# Altium schematic symbol library WE-TVSP.SchLib: 358 symbols (part 1 of 7)
Pins are listed as number, name and electrical type; pins without a type are passive.

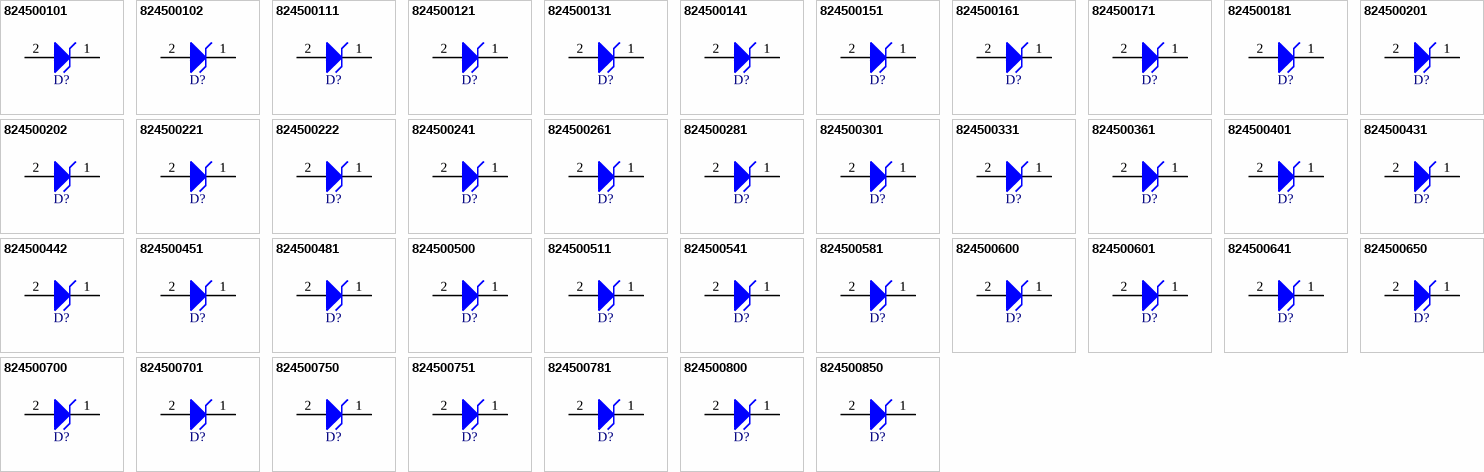
[diagram p0: symbols 824500101 to 824500850]

## 824500101
designator D?, comment 400W, 10VDC  (value not drawn)
WE-TVSP SMT Power TVS Diode, DO-214AC, Unidirectional, 400W, 10VDC; Manufacturer Part Number: 824500101; Manufacturer: Wurth Elektronik; Clamping Voltage: 17V; Operating Voltage (DC): 10V; (Reverse) Breakdown Voltage: 11.7V; (Reverse) Peak Pulse Current: 23.5A; ComponentLink1Description: Website Link; ComponentLink1URL: https://www.we-online.com/redexpert/article/824500101?ad; ComponentLink2Description: Datasheet Link; ComponentLink2URL: https://www.we-online.com/redexpert/spec/824500101?ad; Category: Surge Protection; Match Code: WE-TVSP; Mount: Surface Mount; Operating Temperature Max: 150°C; Operating Temperature Min: -65°C; Packaging: Tape and Reel; Case/Size Code: DO-214AC; Length: 4.24mm; Width: 2.67mm; Height: 2.25mm; Polarity: Unidirectional; Power Dissipation: 400W
footprint WE-TVSP_DO-214AC_Unidirectional
pins: 1 K, 2 A

## 824500102
designator D?, comment 400W, 100VDC  (value not drawn)
WE-TVSP SMT Power TVS Diode, DO-214AC, Unidirectional, 400W, 100VDC; Manufacturer Part Number: 824500102; Manufacturer: Wurth Elektronik; Clamping Voltage: 162V; Operating Voltage (DC): 100V; (Reverse) Breakdown Voltage: 117V; (Reverse) Peak Pulse Current: 2.5A; ComponentLink1Description: Website Link; ComponentLink1URL: https://www.we-online.com/redexpert/article/824500102?ad; ComponentLink2Description: Datasheet Link; ComponentLink2URL: https://www.we-online.com/redexpert/spec/824500102?ad; Category: Surge Protection; Match Code: WE-TVSP; Mount: Surface Mount; Operating Temperature Max: 150°C; Operating Temperature Min: -65°C; Packaging: Tape and Reel; Case/Size Code: DO-214AC; Length: 4.24mm; Width: 2.67mm; Height: 2.25mm; Polarity: Unidirectional; Power Dissipation: 400W
footprint WE-TVSP_DO-214AC_Unidirectional
pins: 1 K, 2 A

## 824500111
designator D?, comment 400W, 11VDC  (value not drawn)
WE-TVSP SMT Power TVS Diode, DO-214AC, Unidirectional, 400W, 11VDC; Manufacturer Part Number: 824500111; Manufacturer: Wurth Elektronik; Clamping Voltage: 18.2V; Operating Voltage (DC): 11V; (Reverse) Breakdown Voltage: 12.85V; (Reverse) Peak Pulse Current: 22A; ComponentLink1Description: Website Link; ComponentLink1URL: https://www.we-online.com/redexpert/article/824500111?ad; ComponentLink2Description: Datasheet Link; ComponentLink2URL: https://www.we-online.com/redexpert/spec/824500111?ad; Category: Surge Protection; Match Code: WE-TVSP; Mount: Surface Mount; Operating Temperature Max: 150°C; Operating Temperature Min: -65°C; Packaging: Tape and Reel; Case/Size Code: DO-214AC; Length: 4.24mm; Width: 2.67mm; Height: 2.25mm; Polarity: Unidirectional; Power Dissipation: 400W
footprint WE-TVSP_DO-214AC_Unidirectional
pins: 1 K, 2 A

## 824500121
designator D?, comment 400W, 12VDC  (value not drawn)
WE-TVSP SMT Power TVS Diode, DO-214AC, Unidirectional, 400W, 12VDC; Manufacturer Part Number: 824500121; Manufacturer: Wurth Elektronik; Clamping Voltage: 19.9V; Operating Voltage (DC): 12V; (Reverse) Breakdown Voltage: 14V; (Reverse) Peak Pulse Current: 20.1A; ComponentLink1Description: Website Link; ComponentLink1URL: https://www.we-online.com/redexpert/article/824500121?ad; ComponentLink2Description: Datasheet Link; ComponentLink2URL: https://www.we-online.com/redexpert/spec/824500121?ad; Category: Surge Protection; Match Code: WE-TVSP; Mount: Surface Mount; Operating Temperature Max: 150°C; Operating Temperature Min: -65°C; Packaging: Tape and Reel; Case/Size Code: DO-214AC; Length: 4.24mm; Width: 2.67mm; Height: 2.25mm; Polarity: Unidirectional; Power Dissipation: 400W
footprint WE-TVSP_DO-214AC_Unidirectional
pins: 1 K, 2 A

## 824500131
designator D?, comment 400W, 13VDC  (value not drawn)
WE-TVSP SMT Power TVS Diode, DO-214AC, Unidirectional, 400W, 13VDC; Manufacturer Part Number: 824500131; Manufacturer: Wurth Elektronik; Clamping Voltage: 21.5V; Operating Voltage (DC): 13V; (Reverse) Breakdown Voltage: 15.15V; (Reverse) Peak Pulse Current: 18.6A; ComponentLink1Description: Website Link; ComponentLink1URL: https://www.we-online.com/redexpert/article/824500131?ad; ComponentLink2Description: Datasheet Link; ComponentLink2URL: https://www.we-online.com/redexpert/spec/824500131?ad; Category: Surge Protection; Match Code: WE-TVSP; Mount: Surface Mount; Operating Temperature Max: 150°C; Operating Temperature Min: -65°C; Packaging: Tape and Reel; Case/Size Code: DO-214AC; Length: 4.24mm; Width: 2.67mm; Height: 2.25mm; Polarity: Unidirectional; Power Dissipation: 400W
footprint WE-TVSP_DO-214AC_Unidirectional
pins: 1 K, 2 A

## 824500141
designator D?, comment 400W, 14VDC  (value not drawn)
WE-TVSP SMT Power TVS Diode, DO-214AC, Unidirectional, 400W, 14VDC; Manufacturer Part Number: 824500141; Manufacturer: Wurth Elektronik; Clamping Voltage: 23.2V; Operating Voltage (DC): 14V; (Reverse) Breakdown Voltage: 16.4V; (Reverse) Peak Pulse Current: 17.2A; ComponentLink1Description: Website Link; ComponentLink1URL: https://www.we-online.com/redexpert/article/824500141?ad; ComponentLink2Description: Datasheet Link; ComponentLink2URL: https://www.we-online.com/redexpert/spec/824500141?ad; Category: Surge Protection; Match Code: WE-TVSP; Mount: Surface Mount; Operating Temperature Max: 150°C; Operating Temperature Min: -65°C; Packaging: Tape and Reel; Case/Size Code: DO-214AC; Length: 4.24mm; Width: 2.67mm; Height: 2.25mm; Polarity: Unidirectional; Power Dissipation: 400W
footprint WE-TVSP_DO-214AC_Unidirectional
pins: 1 K, 2 A

## 824500151
designator D?, comment 400W, 15VDC  (value not drawn)
WE-TVSP SMT Power TVS Diode, DO-214AC, Unidirectional, 400W, 15VDC; Manufacturer Part Number: 824500151; Manufacturer: Wurth Elektronik; Clamping Voltage: 24.2V; Operating Voltage (DC): 15V; (Reverse) Breakdown Voltage: 17.6V; (Reverse) Peak Pulse Current: 16.4A; ComponentLink1Description: Website Link; ComponentLink1URL: https://www.we-online.com/redexpert/article/824500151?ad; ComponentLink2Description: Datasheet Link; ComponentLink2URL: https://www.we-online.com/redexpert/spec/824500151?ad; Category: Surge Protection; Match Code: WE-TVSP; Mount: Surface Mount; Operating Temperature Max: 150°C; Operating Temperature Min: -65°C; Packaging: Tape and Reel; Case/Size Code: DO-214AC; Length: 4.24mm; Width: 2.67mm; Height: 2.25mm; Polarity: Unidirectional; Power Dissipation: 400W
footprint WE-TVSP_DO-214AC_Unidirectional
pins: 1 K, 2 A

## 824500161
designator D?, comment 400W, 16VDC  (value not drawn)
WE-TVSP SMT Power TVS Diode, DO-214AC, Unidirectional, 400W, 16VDC; Manufacturer Part Number: 824500161; Manufacturer: Wurth Elektronik; Clamping Voltage: 26V; Operating Voltage (DC): 16V; (Reverse) Breakdown Voltage: 18.75V; (Reverse) Peak Pulse Current: 15.4A; ComponentLink1Description: Website Link; ComponentLink1URL: https://www.we-online.com/redexpert/article/824500161?ad; ComponentLink2Description: Datasheet Link; ComponentLink2URL: https://www.we-online.com/redexpert/spec/824500161?ad; Category: Surge Protection; Match Code: WE-TVSP; Mount: Surface Mount; Operating Temperature Max: 150°C; Operating Temperature Min: -65°C; Packaging: Tape and Reel; Case/Size Code: DO-214AC; Length: 4.24mm; Width: 2.67mm; Height: 2.25mm; Polarity: Unidirectional; Power Dissipation: 400W
footprint WE-TVSP_DO-214AC_Unidirectional
pins: 1 K, 2 A

## 824500171
designator D?, comment 400W, 17VDC  (value not drawn)
WE-TVSP SMT Power TVS Diode, DO-214AC, Unidirectional, 400W, 17VDC; Manufacturer Part Number: 824500171; Manufacturer: Wurth Elektronik; Clamping Voltage: 27.6V; Operating Voltage (DC): 17V; (Reverse) Breakdown Voltage: 19.9V; (Reverse) Peak Pulse Current: 14.5A; ComponentLink1Description: Website Link; ComponentLink1URL: https://www.we-online.com/redexpert/article/824500171?ad; ComponentLink2Description: Datasheet Link; ComponentLink2URL: https://www.we-online.com/redexpert/spec/824500171?ad; Category: Surge Protection; Match Code: WE-TVSP; Mount: Surface Mount; Operating Temperature Max: 150°C; Operating Temperature Min: -65°C; Packaging: Tape and Reel; Case/Size Code: DO-214AC; Length: 4.24mm; Width: 2.67mm; Height: 2.25mm; Polarity: Unidirectional; Power Dissipation: 400W
footprint WE-TVSP_DO-214AC_Unidirectional
pins: 1 K, 2 A

## 824500181
designator D?, comment 400W, 18VDC  (value not drawn)
WE-TVSP SMT Power TVS Diode, DO-214AC, Unidirectional, 400W, 18VDC; Manufacturer Part Number: 824500181; Manufacturer: Wurth Elektronik; Clamping Voltage: 29.2V; Operating Voltage (DC): 18V; (Reverse) Breakdown Voltage: 21.05V; (Reverse) Peak Pulse Current: 13.7A; ComponentLink1Description: Website Link; ComponentLink1URL: https://www.we-online.com/redexpert/article/824500181?ad; ComponentLink2Description: Datasheet Link; ComponentLink2URL: https://www.we-online.com/redexpert/spec/824500181?ad; Category: Surge Protection; Match Code: WE-TVSP; Mount: Surface Mount; Operating Temperature Max: 150°C; Operating Temperature Min: -65°C; Packaging: Tape and Reel; Case/Size Code: DO-214AC; Length: 4.24mm; Width: 2.67mm; Height: 2.25mm; Polarity: Unidirectional; Power Dissipation: 400W
footprint WE-TVSP_DO-214AC_Unidirectional
pins: 1 K, 2 A

## 824500201
designator D?, comment 400W, 20VDC  (value not drawn)
WE-TVSP SMT Power TVS Diode, DO-214AC, Unidirectional, 400W, 20VDC; Manufacturer Part Number: 824500201; Manufacturer: Wurth Elektronik; Clamping Voltage: 32.4V; Operating Voltage (DC): 20V; (Reverse) Breakdown Voltage: 23.35V; (Reverse) Peak Pulse Current: 12.3A; ComponentLink1Description: Website Link; ComponentLink1URL: https://www.we-online.com/redexpert/article/824500201?ad; ComponentLink2Description: Datasheet Link; ComponentLink2URL: https://www.we-online.com/redexpert/spec/824500201?ad; Category: Surge Protection; Match Code: WE-TVSP; Mount: Surface Mount; Operating Temperature Max: 150°C; Operating Temperature Min: -65°C; Packaging: Tape and Reel; Case/Size Code: DO-214AC; Length: 4.24mm; Width: 2.67mm; Height: 2.25mm; Polarity: Unidirectional; Power Dissipation: 400W
footprint WE-TVSP_DO-214AC_Unidirectional
pins: 1 K, 2 A

## 824500202
designator D?, comment 400W, 200VDC  (value not drawn)
WE-TVSP SMT Power TVS Diode, DO-214AC, Unidirectional, 400W, 200VDC; Manufacturer Part Number: 824500202; Manufacturer: Wurth Elektronik; Clamping Voltage: 324V; Operating Voltage (DC): 200V; (Reverse) Breakdown Voltage: 235.5V; (Reverse) Peak Pulse Current: 1.2A; ComponentLink1Description: Website Link; ComponentLink1URL: https://www.we-online.com/redexpert/article/824500202?ad; ComponentLink2Description: Datasheet Link; ComponentLink2URL: https://www.we-online.com/redexpert/spec/824500202?ad; Category: Surge Protection; Match Code: WE-TVSP; Mount: Surface Mount; Operating Temperature Max: 150°C; Operating Temperature Min: -65°C; Packaging: Tape and Reel; Case/Size Code: DO-214AC; Length: 4.24mm; Width: 2.67mm; Height: 2.25mm; Polarity: Unidirectional; Power Dissipation: 400W
footprint WE-TVSP_DO-214AC_Unidirectional
pins: 1 K, 2 A

## 824500221
designator D?, comment 400W, 22VDC  (value not drawn)
WE-TVSP SMT Power TVS Diode, DO-214AC, Unidirectional, 400W, 22VDC; Manufacturer Part Number: 824500221; Manufacturer: Wurth Elektronik; Clamping Voltage: 35.5V; Operating Voltage (DC): 22V; (Reverse) Breakdown Voltage: 25.65V; (Reverse) Peak Pulse Current: 11.3A; ComponentLink1Description: Website Link; ComponentLink1URL: https://www.we-online.com/redexpert/article/824500221?ad; ComponentLink2Description: Datasheet Link; ComponentLink2URL: https://www.we-online.com/redexpert/spec/824500221?ad; Category: Surge Protection; Match Code: WE-TVSP; Mount: Surface Mount; Operating Temperature Max: 150°C; Operating Temperature Min: -65°C; Packaging: Tape and Reel; Case/Size Code: DO-214AC; Length: 4.24mm; Width: 2.67mm; Height: 2.25mm; Polarity: Unidirectional; Power Dissipation: 400W
footprint WE-TVSP_DO-214AC_Unidirectional
pins: 1 K, 2 A

## 824500222
designator D?, comment 400W, 220VDC  (value not drawn)
WE-TVSP SMT Power TVS Diode, DO-214AC, Unidirectional, 400W, 220VDC; Manufacturer Part Number: 824500222; Manufacturer: Wurth Elektronik; Clamping Voltage: 356V; Operating Voltage (DC): 220V; (Reverse) Breakdown Voltage: 259V; (Reverse) Peak Pulse Current: 1.1A; ComponentLink1Description: Website Link; ComponentLink1URL: https://www.we-online.com/redexpert/article/824500222?ad; ComponentLink2Description: Datasheet Link; ComponentLink2URL: https://www.we-online.com/redexpert/spec/824500222?ad; Category: Surge Protection; Match Code: WE-TVSP; Mount: Surface Mount; Operating Temperature Max: 150°C; Operating Temperature Min: -65°C; Packaging: Tape and Reel; Case/Size Code: DO-214AC; Length: 4.24mm; Width: 2.67mm; Height: 2.25mm; Polarity: Unidirectional; Power Dissipation: 400W
footprint WE-TVSP_DO-214AC_Unidirectional
pins: 1 K, 2 A

## 824500241
designator D?, comment 400W, 24VDC  (value not drawn)
WE-TVSP SMT Power TVS Diode, DO-214AC, Unidirectional, 400W, 24VDC; Manufacturer Part Number: 824500241; Manufacturer: Wurth Elektronik; Clamping Voltage: 38.9V; Operating Voltage (DC): 24V; (Reverse) Breakdown Voltage: 28.1V; (Reverse) Peak Pulse Current: 10.3A; ComponentLink1Description: Website Link; ComponentLink1URL: https://www.we-online.com/redexpert/article/824500241?ad; ComponentLink2Description: Datasheet Link; ComponentLink2URL: https://www.we-online.com/redexpert/spec/824500241?ad; Category: Surge Protection; Match Code: WE-TVSP; Mount: Surface Mount; Operating Temperature Max: 150°C; Operating Temperature Min: -65°C; Packaging: Tape and Reel; Case/Size Code: DO-214AC; Length: 4.24mm; Width: 2.67mm; Height: 2.25mm; Polarity: Unidirectional; Power Dissipation: 400W
footprint WE-TVSP_DO-214AC_Unidirectional
pins: 1 K, 2 A

## 824500261
designator D?, comment 400W, 26VDC  (value not drawn)
WE-TVSP SMT Power TVS Diode, DO-214AC, Unidirectional, 400W, 26VDC; Manufacturer Part Number: 824500261; Manufacturer: Wurth Elektronik; Clamping Voltage: 42.1V; Operating Voltage (DC): 26V; (Reverse) Breakdown Voltage: 30.4V; (Reverse) Peak Pulse Current: 9.5A; ComponentLink1Description: Website Link; ComponentLink1URL: https://www.we-online.com/redexpert/article/824500261?ad; ComponentLink2Description: Datasheet Link; ComponentLink2URL: https://www.we-online.com/redexpert/spec/824500261?ad; Category: Surge Protection; Match Code: WE-TVSP; Mount: Surface Mount; Operating Temperature Max: 150°C; Operating Temperature Min: -65°C; Packaging: Tape and Reel; Case/Size Code: DO-214AC; Length: 4.24mm; Width: 2.67mm; Height: 2.25mm; Polarity: Unidirectional; Power Dissipation: 400W
footprint WE-TVSP_DO-214AC_Unidirectional
pins: 1 K, 2 A

## 824500281
designator D?, comment 400W, 28VDC  (value not drawn)
WE-TVSP SMT Power TVS Diode, DO-214AC, Unidirectional, 400W, 28VDC; Manufacturer Part Number: 824500281; Manufacturer: Wurth Elektronik; Clamping Voltage: 45.4V; Operating Voltage (DC): 28V; (Reverse) Breakdown Voltage: 32.75V; (Reverse) Peak Pulse Current: 8.8A; ComponentLink1Description: Website Link; ComponentLink1URL: https://www.we-online.com/redexpert/article/824500281?ad; ComponentLink2Description: Datasheet Link; ComponentLink2URL: https://www.we-online.com/redexpert/spec/824500281?ad; Category: Surge Protection; Match Code: WE-TVSP; Mount: Surface Mount; Operating Temperature Max: 150°C; Operating Temperature Min: -65°C; Packaging: Tape and Reel; Case/Size Code: DO-214AC; Length: 4.24mm; Width: 2.67mm; Height: 2.25mm; Polarity: Unidirectional; Power Dissipation: 400W
footprint WE-TVSP_DO-214AC_Unidirectional
pins: 1 K, 2 A

## 824500301
designator D?, comment 400W, 30VDC  (value not drawn)
WE-TVSP SMT Power TVS Diode, DO-214AC, Unidirectional, 400W, 30VDC; Manufacturer Part Number: 824500301; Manufacturer: Wurth Elektronik; Clamping Voltage: 48.4V; Operating Voltage (DC): 30V; (Reverse) Breakdown Voltage: 35.05V; (Reverse) Peak Pulse Current: 8.3A; ComponentLink1Description: Website Link; ComponentLink1URL: https://www.we-online.com/redexpert/article/824500301?ad; ComponentLink2Description: Datasheet Link; ComponentLink2URL: https://www.we-online.com/redexpert/spec/824500301?ad; Category: Surge Protection; Match Code: WE-TVSP; Mount: Surface Mount; Operating Temperature Max: 150°C; Operating Temperature Min: -65°C; Packaging: Tape and Reel; Case/Size Code: DO-214AC; Length: 4.24mm; Width: 2.67mm; Height: 2.25mm; Polarity: Unidirectional; Power Dissipation: 400W
footprint WE-TVSP_DO-214AC_Unidirectional
pins: 1 K, 2 A

## 824500331
designator D?, comment 400W, 33VDC  (value not drawn)
WE-TVSP SMT Power TVS Diode, DO-214AC, Unidirectional, 400W, 33VDC; Manufacturer Part Number: 824500331; Manufacturer: Wurth Elektronik; Clamping Voltage: 53.3V; Operating Voltage (DC): 33V; (Reverse) Breakdown Voltage: 38.65V; (Reverse) Peak Pulse Current: 7.5A; ComponentLink1Description: Website Link; ComponentLink1URL: https://www.we-online.com/redexpert/article/824500331?ad; ComponentLink2Description: Datasheet Link; ComponentLink2URL: https://www.we-online.com/redexpert/spec/824500331?ad; Category: Surge Protection; Match Code: WE-TVSP; Mount: Surface Mount; Operating Temperature Max: 150°C; Operating Temperature Min: -65°C; Packaging: Tape and Reel; Case/Size Code: DO-214AC; Length: 4.24mm; Width: 2.67mm; Height: 2.25mm; Polarity: Unidirectional; Power Dissipation: 400W
footprint WE-TVSP_DO-214AC_Unidirectional
pins: 1 K, 2 A

## 824500361
designator D?, comment 400W, 36VDC  (value not drawn)
WE-TVSP SMT Power TVS Diode, DO-214AC, Unidirectional, 400W, 36VDC; Manufacturer Part Number: 824500361; Manufacturer: Wurth Elektronik; Clamping Voltage: 58.1V; Operating Voltage (DC): 36V; (Reverse) Breakdown Voltage: 42.1V; (Reverse) Peak Pulse Current: 6.9A; ComponentLink1Description: Website Link; ComponentLink1URL: https://www.we-online.com/redexpert/article/824500361?ad; ComponentLink2Description: Datasheet Link; ComponentLink2URL: https://www.we-online.com/redexpert/spec/824500361?ad; Category: Surge Protection; Match Code: WE-TVSP; Mount: Surface Mount; Operating Temperature Max: 150°C; Operating Temperature Min: -65°C; Packaging: Tape and Reel; Case/Size Code: DO-214AC; Length: 4.24mm; Width: 2.67mm; Height: 2.25mm; Polarity: Unidirectional; Power Dissipation: 400W
footprint WE-TVSP_DO-214AC_Unidirectional
pins: 1 K, 2 A

## 824500401
designator D?, comment 400W, 40VDC  (value not drawn)
WE-TVSP SMT Power TVS Diode, DO-214AC, Unidirectional, 400W, 40VDC; Manufacturer Part Number: 824500401; Manufacturer: Wurth Elektronik; Clamping Voltage: 64.5V; Operating Voltage (DC): 40V; (Reverse) Breakdown Voltage: 46.75V; (Reverse) Peak Pulse Current: 6.2A; ComponentLink1Description: Website Link; ComponentLink1URL: https://www.we-online.com/redexpert/article/824500401?ad; ComponentLink2Description: Datasheet Link; ComponentLink2URL: https://www.we-online.com/redexpert/spec/824500401?ad; Category: Surge Protection; Match Code: WE-TVSP; Mount: Surface Mount; Operating Temperature Max: 150°C; Operating Temperature Min: -65°C; Packaging: Tape and Reel; Case/Size Code: DO-214AC; Length: 4.24mm; Width: 2.67mm; Height: 2.25mm; Polarity: Unidirectional; Power Dissipation: 400W
footprint WE-TVSP_DO-214AC_Unidirectional
pins: 1 K, 2 A

## 824500431
designator D?, comment 400W, 43VDC  (value not drawn)
WE-TVSP SMT Power TVS Diode, DO-214AC, Unidirectional, 400W, 43VDC; Manufacturer Part Number: 824500431; Manufacturer: Wurth Elektronik; Clamping Voltage: 69.4V; Operating Voltage (DC): 43V; (Reverse) Breakdown Voltage: 50.3V; (Reverse) Peak Pulse Current: 5.8A; ComponentLink1Description: Website Link; ComponentLink1URL: https://www.we-online.com/redexpert/article/824500431?ad; ComponentLink2Description: Datasheet Link; ComponentLink2URL: https://www.we-online.com/redexpert/spec/824500431?ad; Category: Surge Protection; Match Code: WE-TVSP; Mount: Surface Mount; Operating Temperature Max: 150°C; Operating Temperature Min: -65°C; Packaging: Tape and Reel; Case/Size Code: DO-214AC; Length: 4.24mm; Width: 2.67mm; Height: 2.25mm; Polarity: Unidirectional; Power Dissipation: 400W
footprint WE-TVSP_DO-214AC_Unidirectional
pins: 1 K, 2 A

## 824500442
designator D?, comment 400W, 440VDC  (value not drawn)
WE-TVSP SMT Power TVS Diode, DO-214AC, Unidirectional, 400W, 440VDC; Manufacturer Part Number: 824500442; Manufacturer: Wurth Elektronik; Clamping Voltage: 713V; Operating Voltage (DC): 440V; (Reverse) Breakdown Voltage: 517.5V; (Reverse) Peak Pulse Current: 0.6A; ComponentLink1Description: Website Link; ComponentLink1URL: https://www.we-online.com/redexpert/article/824500442?ad; ComponentLink2Description: Datasheet Link; ComponentLink2URL: https://www.we-online.com/redexpert/spec/824500442?ad; Category: Surge Protection; Match Code: WE-TVSP; Mount: Surface Mount; Operating Temperature Max: 150°C; Operating Temperature Min: -65°C; Packaging: Tape and Reel; Case/Size Code: DO-214AC; Length: 4.24mm; Width: 2.67mm; Height: 2.25mm; Polarity: Unidirectional; Power Dissipation: 400W
footprint WE-TVSP_DO-214AC_Unidirectional
pins: 1 K, 2 A

## 824500451
designator D?, comment 400W, 45VDC  (value not drawn)
WE-TVSP SMT Power TVS Diode, DO-214AC, Unidirectional, 400W, 45VDC; Manufacturer Part Number: 824500451; Manufacturer: Wurth Elektronik; Clamping Voltage: 72.7V; Operating Voltage (DC): 45V; (Reverse) Breakdown Voltage: 52.65V; (Reverse) Peak Pulse Current: 5.5A; ComponentLink1Description: Website Link; ComponentLink1URL: https://www.we-online.com/redexpert/article/824500451?ad; ComponentLink2Description: Datasheet Link; ComponentLink2URL: https://www.we-online.com/redexpert/spec/824500451?ad; Category: Surge Protection; Match Code: WE-TVSP; Mount: Surface Mount; Operating Temperature Max: 150°C; Operating Temperature Min: -65°C; Packaging: Tape and Reel; Case/Size Code: DO-214AC; Length: 4.24mm; Width: 2.67mm; Height: 2.25mm; Polarity: Unidirectional; Power Dissipation: 400W
footprint WE-TVSP_DO-214AC_Unidirectional
pins: 1 K, 2 A

## 824500481
designator D?, comment 400W, 48VDC  (value not drawn)
WE-TVSP SMT Power TVS Diode, DO-214AC, Unidirectional, 400W, 48VDC; Manufacturer Part Number: 824500481; Manufacturer: Wurth Elektronik; Clamping Voltage: 77.4V; Operating Voltage (DC): 48V; (Reverse) Breakdown Voltage: 56.1V; (Reverse) Peak Pulse Current: 5.2A; ComponentLink1Description: Website Link; ComponentLink1URL: https://www.we-online.com/redexpert/article/824500481?ad; ComponentLink2Description: Datasheet Link; ComponentLink2URL: https://www.we-online.com/redexpert/spec/824500481?ad; Category: Surge Protection; Match Code: WE-TVSP; Mount: Surface Mount; Operating Temperature Max: 150°C; Operating Temperature Min: -65°C; Packaging: Tape and Reel; Case/Size Code: DO-214AC; Length: 4.24mm; Width: 2.67mm; Height: 2.25mm; Polarity: Unidirectional; Power Dissipation: 400W
footprint WE-TVSP_DO-214AC_Unidirectional
pins: 1 K, 2 A

## 824500500
designator D?, comment 400W, 5VDC  (value not drawn)
WE-TVSP SMT Power TVS Diode, DO-214AC, Unidirectional, 400W, 5VDC; Manufacturer Part Number: 824500500; Manufacturer: Wurth Elektronik; Clamping Voltage: 9.2V; Operating Voltage (DC): 5V; (Reverse) Breakdown Voltage: 6.7V; (Reverse) Peak Pulse Current: 43.5A; ComponentLink1Description: Website Link; ComponentLink1URL: https://www.we-online.com/redexpert/article/824500500?ad; ComponentLink2Description: Datasheet Link; ComponentLink2URL: https://www.we-online.com/redexpert/spec/824500500?ad; Category: Surge Protection; Match Code: WE-TVSP; Mount: Surface Mount; Operating Temperature Max: 150°C; Operating Temperature Min: -65°C; Packaging: Tape and Reel; Case/Size Code: DO-214AC; Length: 4.24mm; Width: 2.67mm; Height: 2.25mm; Polarity: Unidirectional; Power Dissipation: 400W
footprint WE-TVSP_DO-214AC_Unidirectional
pins: 1 K, 2 A

## 824500511
designator D?, comment 400W, 51VDC  (value not drawn)
WE-TVSP SMT Power TVS Diode, DO-214AC, Unidirectional, 400W, 51VDC; Manufacturer Part Number: 824500511; Manufacturer: Wurth Elektronik; Clamping Voltage: 82.4V; Operating Voltage (DC): 51V; (Reverse) Breakdown Voltage: 59.7V; (Reverse) Peak Pulse Current: 4.9A; ComponentLink1Description: Website Link; ComponentLink1URL: https://www.we-online.com/redexpert/article/824500511?ad; ComponentLink2Description: Datasheet Link; ComponentLink2URL: https://www.we-online.com/redexpert/spec/824500511?ad; Category: Surge Protection; Match Code: WE-TVSP; Mount: Surface Mount; Operating Temperature Max: 150°C; Operating Temperature Min: -65°C; Packaging: Tape and Reel; Case/Size Code: DO-214AC; Length: 4.24mm; Width: 2.67mm; Height: 2.25mm; Polarity: Unidirectional; Power Dissipation: 400W
footprint WE-TVSP_DO-214AC_Unidirectional
pins: 1 K, 2 A

## 824500541
designator D?, comment 400W, 54VDC  (value not drawn)
WE-TVSP SMT Power TVS Diode, DO-214AC, Unidirectional, 400W, 54VDC; Manufacturer Part Number: 824500541; Manufacturer: Wurth Elektronik; Clamping Voltage: 87.1V; Operating Voltage (DC): 54V; (Reverse) Breakdown Voltage: 63.15V; (Reverse) Peak Pulse Current: 4.6A; ComponentLink1Description: Website Link; ComponentLink1URL: https://www.we-online.com/redexpert/article/824500541?ad; ComponentLink2Description: Datasheet Link; ComponentLink2URL: https://www.we-online.com/redexpert/spec/824500541?ad; Category: Surge Protection; Match Code: WE-TVSP; Mount: Surface Mount; Operating Temperature Max: 150°C; Operating Temperature Min: -65°C; Packaging: Tape and Reel; Case/Size Code: DO-214AC; Length: 4.24mm; Width: 2.67mm; Height: 2.25mm; Polarity: Unidirectional; Power Dissipation: 400W
footprint WE-TVSP_DO-214AC_Unidirectional
pins: 1 K, 2 A

## 824500581
designator D?, comment 400W, 58VDC  (value not drawn)
WE-TVSP SMT Power TVS Diode, DO-214AC, Unidirectional, 400W, 58VDC; Manufacturer Part Number: 824500581; Manufacturer: Wurth Elektronik; Clamping Voltage: 93.6V; Operating Voltage (DC): 58V; (Reverse) Breakdown Voltage: 67.8V; (Reverse) Peak Pulse Current: 4.3A; ComponentLink1Description: Website Link; ComponentLink1URL: https://www.we-online.com/redexpert/article/824500581?ad; ComponentLink2Description: Datasheet Link; ComponentLink2URL: https://www.we-online.com/redexpert/spec/824500581?ad; Category: Surge Protection; Match Code: WE-TVSP; Mount: Surface Mount; Operating Temperature Max: 150°C; Operating Temperature Min: -65°C; Packaging: Tape and Reel; Case/Size Code: DO-214AC; Length: 4.24mm; Width: 2.67mm; Height: 2.25mm; Polarity: Unidirectional; Power Dissipation: 400W
footprint WE-TVSP_DO-214AC_Unidirectional
pins: 1 K, 2 A

## 824500600
designator D?, comment 400W, 6VDC  (value not drawn)
WE-TVSP SMT Power TVS Diode, DO-214AC, Unidirectional, 400W, 6VDC; Manufacturer Part Number: 824500600; Manufacturer: Wurth Elektronik; Clamping Voltage: 10.3V; Operating Voltage (DC): 6V; (Reverse) Breakdown Voltage: 7.02V; (Reverse) Peak Pulse Current: 38.8A; ComponentLink1Description: Website Link; ComponentLink1URL: https://www.we-online.com/redexpert/article/824500600?ad; ComponentLink2Description: Datasheet Link; ComponentLink2URL: https://www.we-online.com/redexpert/spec/824500600?ad; Category: Surge Protection; Match Code: WE-TVSP; Mount: Surface Mount; Operating Temperature Max: 150°C; Operating Temperature Min: -65°C; Packaging: Tape and Reel; Case/Size Code: DO-214AC; Length: 4.24mm; Width: 2.67mm; Height: 2.25mm; Polarity: Unidirectional; Power Dissipation: 400W
footprint WE-TVSP_DO-214AC_Unidirectional
pins: 1 K, 2 A

## 824500601
designator D?, comment 400W, 60VDC  (value not drawn)
WE-TVSP SMT Power TVS Diode, DO-214AC, Unidirectional, 400W, 60VDC; Manufacturer Part Number: 824500601; Manufacturer: Wurth Elektronik; Clamping Voltage: 96.8V; Operating Voltage (DC): 60V; (Reverse) Breakdown Voltage: 70.2V; (Reverse) Peak Pulse Current: 4.1A; ComponentLink1Description: Website Link; ComponentLink1URL: https://www.we-online.com/redexpert/article/824500601?ad; ComponentLink2Description: Datasheet Link; ComponentLink2URL: https://www.we-online.com/redexpert/spec/824500601?ad; Category: Surge Protection; Match Code: WE-TVSP; Mount: Surface Mount; Operating Temperature Max: 150°C; Operating Temperature Min: -65°C; Packaging: Tape and Reel; Case/Size Code: DO-214AC; Length: 4.24mm; Width: 2.67mm; Height: 2.25mm; Polarity: Unidirectional; Power Dissipation: 400W
footprint WE-TVSP_DO-214AC_Unidirectional
pins: 1 K, 2 A

## 824500641
designator D?, comment 400W, 64VDC  (value not drawn)
WE-TVSP SMT Power TVS Diode, DO-214AC, Unidirectional, 400W, 64VDC; Manufacturer Part Number: 824500641; Manufacturer: Wurth Elektronik; Clamping Voltage: 103V; Operating Voltage (DC): 64V; (Reverse) Breakdown Voltage: 74.85V; (Reverse) Peak Pulse Current: 3.9A; ComponentLink1Description: Website Link; ComponentLink1URL: https://www.we-online.com/redexpert/article/824500641?ad; ComponentLink2Description: Datasheet Link; ComponentLink2URL: https://www.we-online.com/redexpert/spec/824500641?ad; Category: Surge Protection; Match Code: WE-TVSP; Mount: Surface Mount; Operating Temperature Max: 150°C; Operating Temperature Min: -65°C; Packaging: Tape and Reel; Case/Size Code: DO-214AC; Length: 4.24mm; Width: 2.67mm; Height: 2.25mm; Polarity: Unidirectional; Power Dissipation: 400W
footprint WE-TVSP_DO-214AC_Unidirectional
pins: 1 K, 2 A

## 824500650
designator D?, comment 400W, 6.5VDC  (value not drawn)
WE-TVSP SMT Power TVS Diode, DO-214AC, Unidirectional, 400W, 6.5VDC; Manufacturer Part Number: 824500650; Manufacturer: Wurth Elektronik; Clamping Voltage: 11.2V; Operating Voltage (DC): 6.5V; (Reverse) Breakdown Voltage: 7.6V; (Reverse) Peak Pulse Current: 35.7A; ComponentLink1Description: Website Link; ComponentLink1URL: https://www.we-online.com/redexpert/article/824500650?ad; ComponentLink2Description: Datasheet Link; ComponentLink2URL: https://www.we-online.com/redexpert/spec/824500650?ad; Category: Surge Protection; Match Code: WE-TVSP; Mount: Surface Mount; Operating Temperature Max: 150°C; Operating Temperature Min: -65°C; Packaging: Tape and Reel; Case/Size Code: DO-214AC; Length: 4.24mm; Width: 2.67mm; Height: 2.25mm; Polarity: Unidirectional; Power Dissipation: 400W
footprint WE-TVSP_DO-214AC_Unidirectional
pins: 1 K, 2 A

## 824500700
designator D?, comment 400W, 7VDC  (value not drawn)
WE-TVSP SMT Power TVS Diode, DO-214AC, Unidirectional, 400W, 7VDC; Manufacturer Part Number: 824500700; Manufacturer: Wurth Elektronik; Clamping Voltage: 12V; Operating Voltage (DC): 7V; (Reverse) Breakdown Voltage: 8.19V; (Reverse) Peak Pulse Current: 33.3A; ComponentLink1Description: Website Link; ComponentLink1URL: https://www.we-online.com/redexpert/article/824500700?ad; ComponentLink2Description: Datasheet Link; ComponentLink2URL: https://www.we-online.com/redexpert/spec/824500700?ad; Category: Surge Protection; Match Code: WE-TVSP; Mount: Surface Mount; Operating Temperature Max: 150°C; Operating Temperature Min: -65°C; Packaging: Tape and Reel; Case/Size Code: DO-214AC; Length: 4.24mm; Width: 2.67mm; Height: 2.25mm; Polarity: Unidirectional; Power Dissipation: 400W
footprint WE-TVSP_DO-214AC_Unidirectional
pins: 1 K, 2 A

## 824500701
designator D?, comment 400W, 70VDC  (value not drawn)
WE-TVSP SMT Power TVS Diode, DO-214AC, Unidirectional, 400W, 70VDC; Manufacturer Part Number: 824500701; Manufacturer: Wurth Elektronik; Clamping Voltage: 113V; Operating Voltage (DC): 70V; (Reverse) Breakdown Voltage: 81.9V; (Reverse) Peak Pulse Current: 3.5A; ComponentLink1Description: Website Link; ComponentLink1URL: https://www.we-online.com/redexpert/article/824500701?ad; ComponentLink2Description: Datasheet Link; ComponentLink2URL: https://www.we-online.com/redexpert/spec/824500701?ad; Category: Surge Protection; Match Code: WE-TVSP; Mount: Surface Mount; Operating Temperature Max: 150°C; Operating Temperature Min: -65°C; Packaging: Tape and Reel; Case/Size Code: DO-214AC; Length: 4.24mm; Width: 2.67mm; Height: 2.25mm; Polarity: Unidirectional; Power Dissipation: 400W
footprint WE-TVSP_DO-214AC_Unidirectional
pins: 1 K, 2 A

## 824500750
designator D?, comment 400W, 7.5VDC  (value not drawn)
WE-TVSP SMT Power TVS Diode, DO-214AC, Unidirectional, 400W, 7.5VDC; Manufacturer Part Number: 824500750; Manufacturer: Wurth Elektronik; Clamping Voltage: 12.9V; Operating Voltage (DC): 7.5V; (Reverse) Breakdown Voltage: 8.77V; (Reverse) Peak Pulse Current: 31A; ComponentLink1Description: Website Link; ComponentLink1URL: https://www.we-online.com/redexpert/article/824500750?ad; ComponentLink2Description: Datasheet Link; ComponentLink2URL: https://www.we-online.com/redexpert/spec/824500750?ad; Category: Surge Protection; Match Code: WE-TVSP; Mount: Surface Mount; Operating Temperature Max: 150°C; Operating Temperature Min: -65°C; Packaging: Tape and Reel; Case/Size Code: DO-214AC; Length: 4.24mm; Width: 2.67mm; Height: 2.25mm; Polarity: Unidirectional; Power Dissipation: 400W
footprint WE-TVSP_DO-214AC_Unidirectional
pins: 1 K, 2 A

## 824500751
designator D?, comment 400W, 75VDC  (value not drawn)
WE-TVSP SMT Power TVS Diode, DO-214AC, Unidirectional, 400W, 75VDC; Manufacturer Part Number: 824500751; Manufacturer: Wurth Elektronik; Clamping Voltage: 121V; Operating Voltage (DC): 75V; (Reverse) Breakdown Voltage: 87.7V; (Reverse) Peak Pulse Current: 3.3A; ComponentLink1Description: Website Link; ComponentLink1URL: https://www.we-online.com/redexpert/article/824500751?ad; ComponentLink2Description: Datasheet Link; ComponentLink2URL: https://www.we-online.com/redexpert/spec/824500751?ad; Category: Surge Protection; Match Code: WE-TVSP; Mount: Surface Mount; Operating Temperature Max: 150°C; Operating Temperature Min: -65°C; Packaging: Tape and Reel; Case/Size Code: DO-214AC; Length: 4.24mm; Width: 2.67mm; Height: 2.25mm; Polarity: Unidirectional; Power Dissipation: 400W
footprint WE-TVSP_DO-214AC_Unidirectional
pins: 1 K, 2 A

## 824500781
designator D?, comment 400W, 78VDC  (value not drawn)
WE-TVSP SMT Power TVS Diode, DO-214AC, Unidirectional, 400W, 78VDC; Manufacturer Part Number: 824500781; Manufacturer: Wurth Elektronik; Clamping Voltage: 126V; Operating Voltage (DC): 78V; (Reverse) Breakdown Voltage: 91.25V; (Reverse) Peak Pulse Current: 3.2A; ComponentLink1Description: Website Link; ComponentLink1URL: https://www.we-online.com/redexpert/article/824500781?ad; ComponentLink2Description: Datasheet Link; ComponentLink2URL: https://www.we-online.com/redexpert/spec/824500781?ad; Category: Surge Protection; Match Code: WE-TVSP; Mount: Surface Mount; Operating Temperature Max: 150°C; Operating Temperature Min: -65°C; Packaging: Tape and Reel; Case/Size Code: DO-214AC; Length: 4.24mm; Width: 2.67mm; Height: 2.25mm; Polarity: Unidirectional; Power Dissipation: 400W
footprint WE-TVSP_DO-214AC_Unidirectional
pins: 1 K, 2 A

## 824500800
designator D?, comment 400W, 8VDC  (value not drawn)
WE-TVSP SMT Power TVS Diode, DO-214AC, Unidirectional, 400W, 8VDC; Manufacturer Part Number: 824500800; Manufacturer: Wurth Elektronik; Clamping Voltage: 13.6V; Operating Voltage (DC): 8V; (Reverse) Breakdown Voltage: 9.36V; (Reverse) Peak Pulse Current: 29.4A; ComponentLink1Description: Website Link; ComponentLink1URL: https://www.we-online.com/redexpert/article/824500800?ad; ComponentLink2Description: Datasheet Link; ComponentLink2URL: https://www.we-online.com/redexpert/spec/824500800?ad; Category: Surge Protection; Match Code: WE-TVSP; Mount: Surface Mount; Operating Temperature Max: 150°C; Operating Temperature Min: -65°C; Packaging: Tape and Reel; Case/Size Code: DO-214AC; Length: 4.24mm; Width: 2.67mm; Height: 2.25mm; Polarity: Unidirectional; Power Dissipation: 400W
footprint WE-TVSP_DO-214AC_Unidirectional
pins: 1 K, 2 A

## 824500850
designator D?, comment 400W, 8.5VDC  (value not drawn)
WE-TVSP SMT Power TVS Diode, DO-214AC, Unidirectional, 400W, 8.5VDC; Manufacturer Part Number: 824500850; Manufacturer: Wurth Elektronik; Clamping Voltage: 14.4V; Operating Voltage (DC): 8.5V; (Reverse) Breakdown Voltage: 9.92V; (Reverse) Peak Pulse Current: 27.8A; ComponentLink1Description: Website Link; ComponentLink1URL: https://www.we-online.com/redexpert/article/824500850?ad; ComponentLink2Description: Datasheet Link; ComponentLink2URL: https://www.we-online.com/redexpert/spec/824500850?ad; Category: Surge Protection; Match Code: WE-TVSP; Mount: Surface Mount; Operating Temperature Max: 150°C; Operating Temperature Min: -65°C; Packaging: Tape and Reel; Case/Size Code: DO-214AC; Length: 4.24mm; Width: 2.67mm; Height: 2.25mm; Polarity: Unidirectional; Power Dissipation: 400W
footprint WE-TVSP_DO-214AC_Unidirectional
pins: 1 K, 2 A

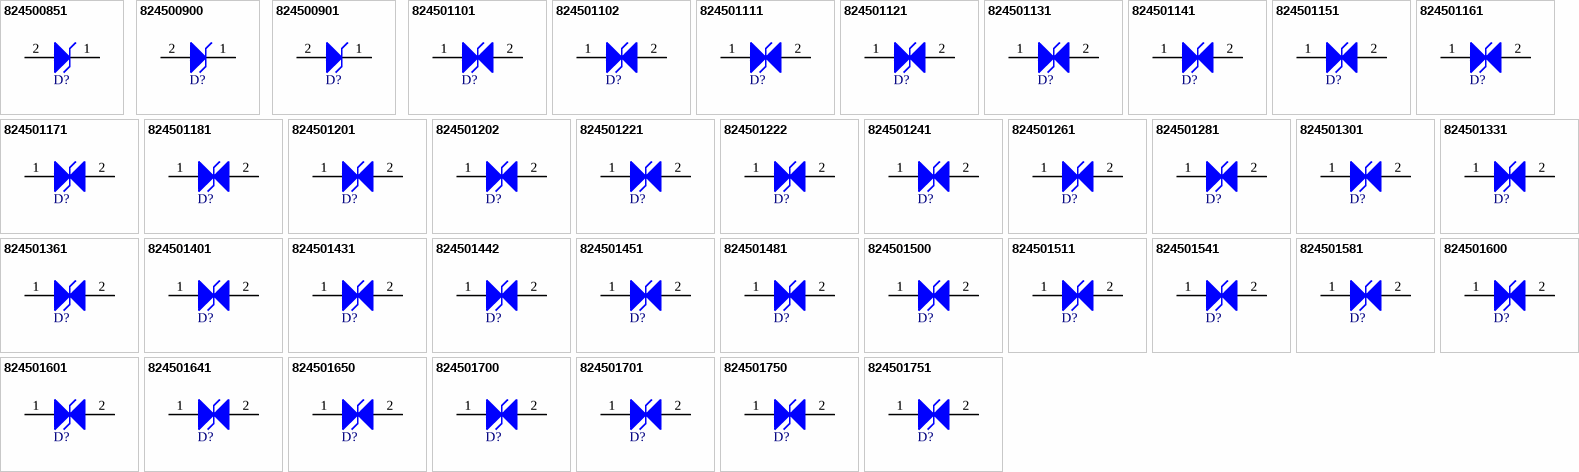
[diagram p1: symbols 824500851 to 824501751]

## 824500851
designator D?, comment 400W, 85VDC  (value not drawn)
WE-TVSP SMT Power TVS Diode, DO-214AC, Unidirectional, 400W, 85VDC; Manufacturer Part Number: 824500851; Manufacturer: Wurth Elektronik; Clamping Voltage: 137V; Operating Voltage (DC): 85V; (Reverse) Breakdown Voltage: 99.2V; (Reverse) Peak Pulse Current: 2.9A; ComponentLink1Description: Website Link; ComponentLink1URL: https://www.we-online.com/redexpert/article/824500851?ad; ComponentLink2Description: Datasheet Link; ComponentLink2URL: https://www.we-online.com/redexpert/spec/824500851?ad; Category: Surge Protection; Match Code: WE-TVSP; Mount: Surface Mount; Operating Temperature Max: 150°C; Operating Temperature Min: -65°C; Packaging: Tape and Reel; Case/Size Code: DO-214AC; Length: 4.24mm; Width: 2.67mm; Height: 2.25mm; Polarity: Unidirectional; Power Dissipation: 400W
footprint WE-TVSP_DO-214AC_Unidirectional
pins: 1 K, 2 A

## 824500900
designator D?, comment 400W, 9VDC  (value not drawn)
WE-TVSP SMT Power TVS Diode, DO-214AC, Unidirectional, 400W, 9VDC; Manufacturer Part Number: 824500900; Manufacturer: Wurth Elektronik; Clamping Voltage: 15.4V; Operating Voltage (DC): 9V; (Reverse) Breakdown Voltage: 10.55V; (Reverse) Peak Pulse Current: 26A; ComponentLink1Description: Website Link; ComponentLink1URL: https://www.we-online.com/redexpert/article/824500900?ad; ComponentLink2Description: Datasheet Link; ComponentLink2URL: https://www.we-online.com/redexpert/spec/824500900?ad; Category: Surge Protection; Match Code: WE-TVSP; Mount: Surface Mount; Operating Temperature Max: 150°C; Operating Temperature Min: -65°C; Packaging: Tape and Reel; Case/Size Code: DO-214AC; Length: 4.24mm; Width: 2.67mm; Height: 2.25mm; Polarity: Unidirectional; Power Dissipation: 400W
footprint WE-TVSP_DO-214AC_Unidirectional
pins: 1 K, 2 A

## 824500901
designator D?, comment 400W, 90VDC  (value not drawn)
WE-TVSP SMT Power TVS Diode, DO-214AC, Unidirectional, 400W, 90VDC; Manufacturer Part Number: 824500901; Manufacturer: Wurth Elektronik; Clamping Voltage: 146V; Operating Voltage (DC): 90V; (Reverse) Breakdown Voltage: 105.5V; (Reverse) Peak Pulse Current: 2.7A; ComponentLink1Description: Website Link; ComponentLink1URL: https://www.we-online.com/redexpert/article/824500901?ad; ComponentLink2Description: Datasheet Link; ComponentLink2URL: https://www.we-online.com/redexpert/spec/824500901?ad; Category: Surge Protection; Match Code: WE-TVSP; Mount: Surface Mount; Operating Temperature Max: 150°C; Operating Temperature Min: -65°C; Packaging: Tape and Reel; Case/Size Code: DO-214AC; Length: 4.24mm; Width: 2.67mm; Height: 2.25mm; Polarity: Unidirectional; Power Dissipation: 400W
footprint WE-TVSP_DO-214AC_Unidirectional
pins: 1 K, 2 A

## 824501101
designator D?, comment 400W, 10VDC  (value not drawn)
WE-TVSP SMT Power TVS Diode, DO-214AC, Bidirectional, 400W, 10VDC; Manufacturer Part Number: 824501101; Manufacturer: Wurth Elektronik; Clamping Voltage: 17V; Operating Voltage (DC): 10V; (Reverse) Breakdown Voltage: 11.7V; (Reverse) Peak Pulse Current: 23.5A; ComponentLink1Description: Website Link; ComponentLink1URL: https://www.we-online.com/redexpert/article/824501101?ad; ComponentLink2Description: Datasheet Link; ComponentLink2URL: https://www.we-online.com/redexpert/spec/824501101?ad; Category: Surge Protection; Match Code: WE-TVSP; Mount: Surface Mount; Operating Temperature Max: 150°C; Operating Temperature Min: -65°C; Packaging: Tape and Reel; Case/Size Code: DO-214AC; Length: 4.24mm; Width: 2.67mm; Height: 2.25mm; Polarity: Bidirectional; Power Dissipation: 400W
footprint WE-TVSP_DO-214AC_Bidirectional
pins: 1, 2

## 824501102
designator D?, comment 400W, 100VDC  (value not drawn)
WE-TVSP SMT Power TVS Diode, DO-214AC, Bidirectional, 400W, 100VDC; Manufacturer Part Number: 824501102; Manufacturer: Wurth Elektronik; Clamping Voltage: 162V; Operating Voltage (DC): 100V; (Reverse) Breakdown Voltage: 117V; (Reverse) Peak Pulse Current: 2.5A; ComponentLink1Description: Website Link; ComponentLink1URL: https://www.we-online.com/redexpert/article/824501102?ad; ComponentLink2Description: Datasheet Link; ComponentLink2URL: https://www.we-online.com/redexpert/spec/824501102?ad; Category: Surge Protection; Match Code: WE-TVSP; Mount: Surface Mount; Operating Temperature Max: 150°C; Operating Temperature Min: -65°C; Packaging: Tape and Reel; Case/Size Code: DO-214AC; Length: 4.24mm; Width: 2.67mm; Height: 2.25mm; Polarity: Bidirectional; Power Dissipation: 400W
footprint WE-TVSP_DO-214AC_Bidirectional
pins: 1, 2

## 824501111
designator D?, comment 400W, 11VDC  (value not drawn)
WE-TVSP SMT Power TVS Diode, DO-214AC, Bidirectional, 400W, 11VDC; Manufacturer Part Number: 824501111; Manufacturer: Wurth Elektronik; Clamping Voltage: 18.2V; Operating Voltage (DC): 11V; (Reverse) Breakdown Voltage: 12.85V; (Reverse) Peak Pulse Current: 22A; ComponentLink1Description: Website Link; ComponentLink1URL: https://www.we-online.com/redexpert/article/824501111?ad; ComponentLink2Description: Datasheet Link; ComponentLink2URL: https://www.we-online.com/redexpert/spec/824501111?ad; Category: Surge Protection; Match Code: WE-TVSP; Mount: Surface Mount; Operating Temperature Max: 150°C; Operating Temperature Min: -65°C; Packaging: Tape and Reel; Case/Size Code: DO-214AC; Length: 4.24mm; Width: 2.67mm; Height: 2.25mm; Polarity: Bidirectional; Power Dissipation: 400W
footprint WE-TVSP_DO-214AC_Bidirectional
pins: 1, 2

## 824501121
designator D?, comment 400W, 12VDC  (value not drawn)
WE-TVSP SMT Power TVS Diode, DO-214AC, Bidirectional, 400W, 12VDC; Manufacturer Part Number: 824501121; Manufacturer: Wurth Elektronik; Clamping Voltage: 19.9V; Operating Voltage (DC): 12V; (Reverse) Breakdown Voltage: 14V; (Reverse) Peak Pulse Current: 20.1A; ComponentLink1Description: Website Link; ComponentLink1URL: https://www.we-online.com/redexpert/article/824501121?ad; ComponentLink2Description: Datasheet Link; ComponentLink2URL: https://www.we-online.com/redexpert/spec/824501121?ad; Category: Surge Protection; Match Code: WE-TVSP; Mount: Surface Mount; Operating Temperature Max: 150°C; Operating Temperature Min: -65°C; Packaging: Tape and Reel; Case/Size Code: DO-214AC; Length: 4.24mm; Width: 2.67mm; Height: 2.25mm; Polarity: Bidirectional; Power Dissipation: 400W
footprint WE-TVSP_DO-214AC_Bidirectional
pins: 1, 2

## 824501131
designator D?, comment 400W, 13VDC  (value not drawn)
WE-TVSP SMT Power TVS Diode, DO-214AC, Bidirectional, 400W, 13VDC; Manufacturer Part Number: 824501131; Manufacturer: Wurth Elektronik; Clamping Voltage: 21.5V; Operating Voltage (DC): 13V; (Reverse) Breakdown Voltage: 15.15V; (Reverse) Peak Pulse Current: 18.6A; ComponentLink1Description: Website Link; ComponentLink1URL: https://www.we-online.com/redexpert/article/824501131?ad; ComponentLink2Description: Datasheet Link; ComponentLink2URL: https://www.we-online.com/redexpert/spec/824501131?ad; Category: Surge Protection; Match Code: WE-TVSP; Mount: Surface Mount; Operating Temperature Max: 150°C; Operating Temperature Min: -65°C; Packaging: Tape and Reel; Case/Size Code: DO-214AC; Length: 4.24mm; Width: 2.67mm; Height: 2.25mm; Polarity: Bidirectional; Power Dissipation: 400W
footprint WE-TVSP_DO-214AC_Bidirectional
pins: 1, 2

## 824501141
designator D?, comment 400W, 14VDC  (value not drawn)
WE-TVSP SMT Power TVS Diode, DO-214AC, Bidirectional, 400W, 14VDC; Manufacturer Part Number: 824501141; Manufacturer: Wurth Elektronik; Clamping Voltage: 23.2V; Operating Voltage (DC): 14V; (Reverse) Breakdown Voltage: 16.4V; (Reverse) Peak Pulse Current: 17.2A; ComponentLink1Description: Website Link; ComponentLink1URL: https://www.we-online.com/redexpert/article/824501141?ad; ComponentLink2Description: Datasheet Link; ComponentLink2URL: https://www.we-online.com/redexpert/spec/824501141?ad; Category: Surge Protection; Match Code: WE-TVSP; Mount: Surface Mount; Operating Temperature Max: 150°C; Operating Temperature Min: -65°C; Packaging: Tape and Reel; Case/Size Code: DO-214AC; Length: 4.24mm; Width: 2.67mm; Height: 2.25mm; Polarity: Bidirectional; Power Dissipation: 400W
footprint WE-TVSP_DO-214AC_Bidirectional
pins: 1, 2

## 824501151
designator D?, comment 400W, 15VDC  (value not drawn)
WE-TVSP SMT Power TVS Diode, DO-214AC, Bidirectional, 400W, 15VDC; Manufacturer Part Number: 824501151; Manufacturer: Wurth Elektronik; Clamping Voltage: 24.4V; Operating Voltage (DC): 15V; (Reverse) Breakdown Voltage: 17.6V; (Reverse) Peak Pulse Current: 16.4A; ComponentLink1Description: Website Link; ComponentLink1URL: https://www.we-online.com/redexpert/article/824501151?ad; ComponentLink2Description: Datasheet Link; ComponentLink2URL: https://www.we-online.com/redexpert/spec/824501151?ad; Category: Surge Protection; Match Code: WE-TVSP; Mount: Surface Mount; Operating Temperature Max: 150°C; Operating Temperature Min: -65°C; Packaging: Tape and Reel; Case/Size Code: DO-214AC; Length: 4.24mm; Width: 2.67mm; Height: 2.25mm; Polarity: Bidirectional; Power Dissipation: 400W
footprint WE-TVSP_DO-214AC_Bidirectional
pins: 1, 2

## 824501161
designator D?, comment 400W, 16VDC  (value not drawn)
WE-TVSP SMT Power TVS Diode, DO-214AC, Bidirectional, 400W, 16VDC; Manufacturer Part Number: 824501161; Manufacturer: Wurth Elektronik; Clamping Voltage: 26V; Operating Voltage (DC): 16V; (Reverse) Breakdown Voltage: 18.75V; (Reverse) Peak Pulse Current: 15.4A; ComponentLink1Description: Website Link; ComponentLink1URL: https://www.we-online.com/redexpert/article/824501161?ad; ComponentLink2Description: Datasheet Link; ComponentLink2URL: https://www.we-online.com/redexpert/spec/824501161?ad; Category: Surge Protection; Match Code: WE-TVSP; Mount: Surface Mount; Operating Temperature Max: 150°C; Operating Temperature Min: -65°C; Packaging: Tape and Reel; Case/Size Code: DO-214AC; Length: 4.24mm; Width: 2.67mm; Height: 2.25mm; Polarity: Bidirectional; Power Dissipation: 400W
footprint WE-TVSP_DO-214AC_Bidirectional
pins: 1, 2

## 824501171
designator D?, comment 400W, 17VDC  (value not drawn)
WE-TVSP SMT Power TVS Diode, DO-214AC, Bidirectional, 400W, 17VDC; Manufacturer Part Number: 824501171; Manufacturer: Wurth Elektronik; Clamping Voltage: 27.6V; Operating Voltage (DC): 17V; (Reverse) Breakdown Voltage: 19.9V; (Reverse) Peak Pulse Current: 14.5A; ComponentLink1Description: Website Link; ComponentLink1URL: https://www.we-online.com/redexpert/article/824501171?ad; ComponentLink2Description: Datasheet Link; ComponentLink2URL: https://www.we-online.com/redexpert/spec/824501171?ad; Category: Surge Protection; Match Code: WE-TVSP; Mount: Surface Mount; Operating Temperature Max: 150°C; Operating Temperature Min: -65°C; Packaging: Tape and Reel; Case/Size Code: DO-214AC; Length: 4.24mm; Width: 2.67mm; Height: 2.25mm; Polarity: Bidirectional; Power Dissipation: 400W
footprint WE-TVSP_DO-214AC_Bidirectional
pins: 1, 2

## 824501181
designator D?, comment 400W, 18VDC  (value not drawn)
WE-TVSP SMT Power TVS Diode, DO-214AC, Bidirectional, 400W, 18VDC; Manufacturer Part Number: 824501181; Manufacturer: Wurth Elektronik; Clamping Voltage: 29.2V; Operating Voltage (DC): 18V; (Reverse) Breakdown Voltage: 21.05V; (Reverse) Peak Pulse Current: 13.7A; ComponentLink1Description: Website Link; ComponentLink1URL: https://www.we-online.com/redexpert/article/824501181?ad; ComponentLink2Description: Datasheet Link; ComponentLink2URL: https://www.we-online.com/redexpert/spec/824501181?ad; Category: Surge Protection; Match Code: WE-TVSP; Mount: Surface Mount; Operating Temperature Max: 150°C; Operating Temperature Min: -65°C; Packaging: Tape and Reel; Case/Size Code: DO-214AC; Length: 4.24mm; Width: 2.67mm; Height: 2.25mm; Polarity: Bidirectional; Power Dissipation: 400W
footprint WE-TVSP_DO-214AC_Bidirectional
pins: 1, 2

## 824501201
designator D?, comment 400W, 20VDC  (value not drawn)
WE-TVSP SMT Power TVS Diode, DO-214AC, Bidirectional, 400W, 20VDC; Manufacturer Part Number: 824501201; Manufacturer: Wurth Elektronik; Clamping Voltage: 32.4V; Operating Voltage (DC): 20V; (Reverse) Breakdown Voltage: 23.35V; (Reverse) Peak Pulse Current: 12.3A; ComponentLink1Description: Website Link; ComponentLink1URL: https://www.we-online.com/redexpert/article/824501201?ad; ComponentLink2Description: Datasheet Link; ComponentLink2URL: https://www.we-online.com/redexpert/spec/824501201?ad; Category: Surge Protection; Match Code: WE-TVSP; Mount: Surface Mount; Operating Temperature Max: 150°C; Operating Temperature Min: -65°C; Packaging: Tape and Reel; Case/Size Code: DO-214AC; Length: 4.24mm; Width: 2.67mm; Height: 2.25mm; Polarity: Bidirectional; Power Dissipation: 400W
footprint WE-TVSP_DO-214AC_Bidirectional
pins: 1, 2